# EAGLE library part KXN_HEADER_1X25 (library kxnStandard_connector)
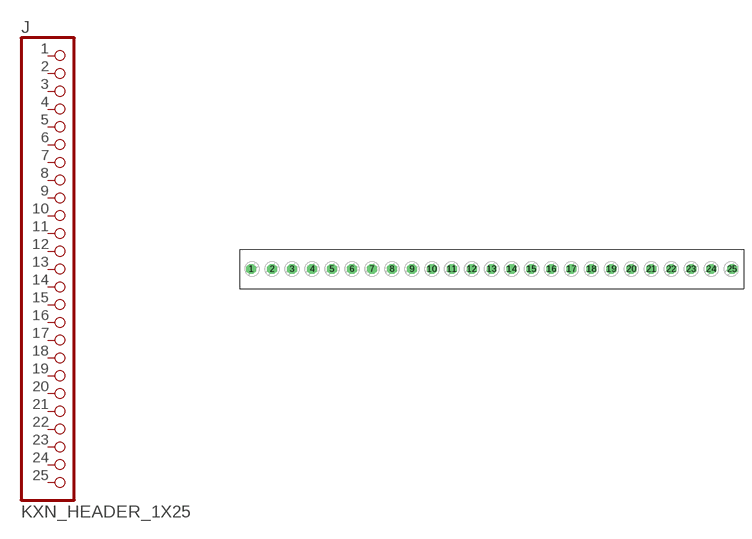
[diagram p23: symbol with the pads of H381_25P_SCREW_FIX_FULL; footprint H381_25P_SCREW_FIX_FULL]

Designator prefix J

## KXN_HEADER_1X25_TERMINAL_381_V1 (CC_SHOP: CongCo)  [H381_25P_SCREW_FIX_FULL]
1  1  pas
2  2  pas
3  3  pas
4  4  pas
5  5  pas
6  6  pas
7  7  pas
8  8  pas
9  9  pas
10  10  pas
11  11  pas
12  12  pas
13  13  pas
14  14  pas
15  15  pas
16  16  pas
17  17  pas
18  18  pas
19  19  pas
20  20  pas
21  21  pas
22  22  pas
23  23  pas
24  24  pas
25  25  pas

## Footprint H381_25P_SCREW_FIX_FULL (pad centres in mm)
drill 1.2 pad 1.9 octagon: 1 -45.915,0; 2 -41.91,0; 3 -38.1,0; 4 -34.29,0; 5 -30.48,0; 6 -26.67,0; 7 -22.86,0; 8 -19.05,0; 9 -15.24,0; 10 -11.43,0; 11 -7.62,0; 12 -3.81,0; 13 0,0; 14 3.81,0; 15 7.62,0; 16 11.43,0; 17 15.24,0; 18 19.05,0; 19 22.86,0; 20 26.67,0; 21 30.48,0; 22 34.29,0; 23 38.1,0; 24 41.91,0; 25 45.915,0